# EAGLE library part PIC16F1619-X/SO (library PIC16F1619_DIP_Package)
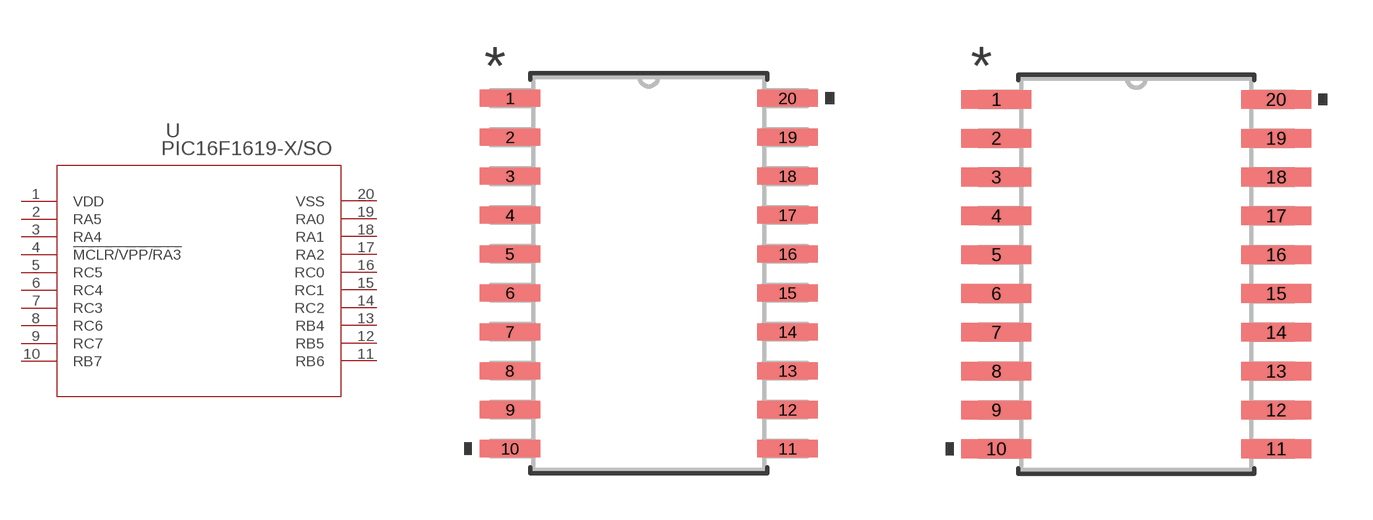
[diagram p0: symbol with the pads of SOIC20-W_MC; footprints SOIC20-W_MC, SOIC20-W_MC-M]

Designator prefix U

## PIC16F1619-X/SO (MANUFACTURER_PART_NUMBER: pic16f1619xso; VENDOR: Microchip)  [SOIC20-W_MC]
1  VDD  pwr
2  RA5
3  RA4
4  !MCLR/VPP/RA3
5  RC5
6  RC4
7  RC3
8  RC6
9  RC7
10  RB7
11  RB6
12  RB5
13  RB4
14  RC2
15  RC1
16  RC0
17  RA2
18  RA1
19  RA0
20  VSS  pwr

## PIC16F1619-X/SOSOIC20-W_MC-M (MANUFACTURER_PART_NUMBER: pic16f1619xso; VENDOR: Microchip)  [SOIC20-W_MC-M]
Pads as for SOIC20-W_MC

## PIC16F1619-X/SOSOIC20-W_MC-L (MANUFACTURER_PART_NUMBER: pic16f1619xso; VENDOR: Microchip)  [SOIC20-W_MC-L]
Pads as for SOIC20-W_MC

## Footprint SOIC20-W_MC (pad centres in mm)
smd 1.981 x 0.559: 1 -4.521,5.715; 2 -4.521,4.445; 3 -4.521,3.175; 4 -4.521,1.905; 5 -4.521,0.635; 6 -4.521,-0.635; 7 -4.521,-1.905; 8 -4.521,-3.175; 9 -4.521,-4.445; 10 -4.521,-5.715; 11 4.521,-5.715; 12 4.521,-4.445; 13 4.521,-3.175; 14 4.521,-1.905; 15 4.521,-0.635; 16 4.521,0.635; 17 4.521,1.905; 18 4.521,3.175; 19 4.521,4.445; 20 4.521,5.715

## Footprint SOIC20-W_MC-M (pad centres in mm)
smd 2.286 x 0.61: 1 -4.572,5.715; 2 -4.572,4.445; 3 -4.572,3.175; 4 -4.572,1.905; 5 -4.572,0.635; 6 -4.572,-0.635; 7 -4.572,-1.905; 8 -4.572,-3.175; 9 -4.572,-4.445; 10 -4.572,-5.715; 11 4.572,-5.715; 12 4.572,-4.445; 13 4.572,-3.175; 14 4.572,-1.905; 15 4.572,-0.635; 16 4.572,0.635; 17 4.572,1.905; 18 4.572,3.175; 19 4.572,4.445; 20 4.572,5.715

## Footprint SOIC20-W_MC-L (pad centres in mm)
smd 1.676 x 0.508: 1 -4.47,5.715; 2 -4.47,4.445; 3 -4.47,3.175; 4 -4.47,1.905; 5 -4.47,0.635; 6 -4.47,-0.635; 7 -4.47,-1.905; 8 -4.47,-3.175; 9 -4.47,-4.445; 10 -4.47,-5.715; 11 4.47,-5.715; 12 4.47,-4.445; 13 4.47,-3.175; 14 4.47,-1.905; 15 4.47,-0.635; 16 4.47,0.635; 17 4.47,1.905; 18 4.47,3.175; 19 4.47,4.445; 20 4.47,5.715